# Altium footprint library SOP.PcbLib: 40 footprints (part 1 of 3)
Each footprint in its own frame and in the unit in brackets; x right, y up, seen from the top. Pads: shape width x height; smd on the part's side, far side on the other; paste and mask are expansions set on the pad; w line width, h text height; cw(c..) or ccw(c..) is an arc to the next point about the centre after c.
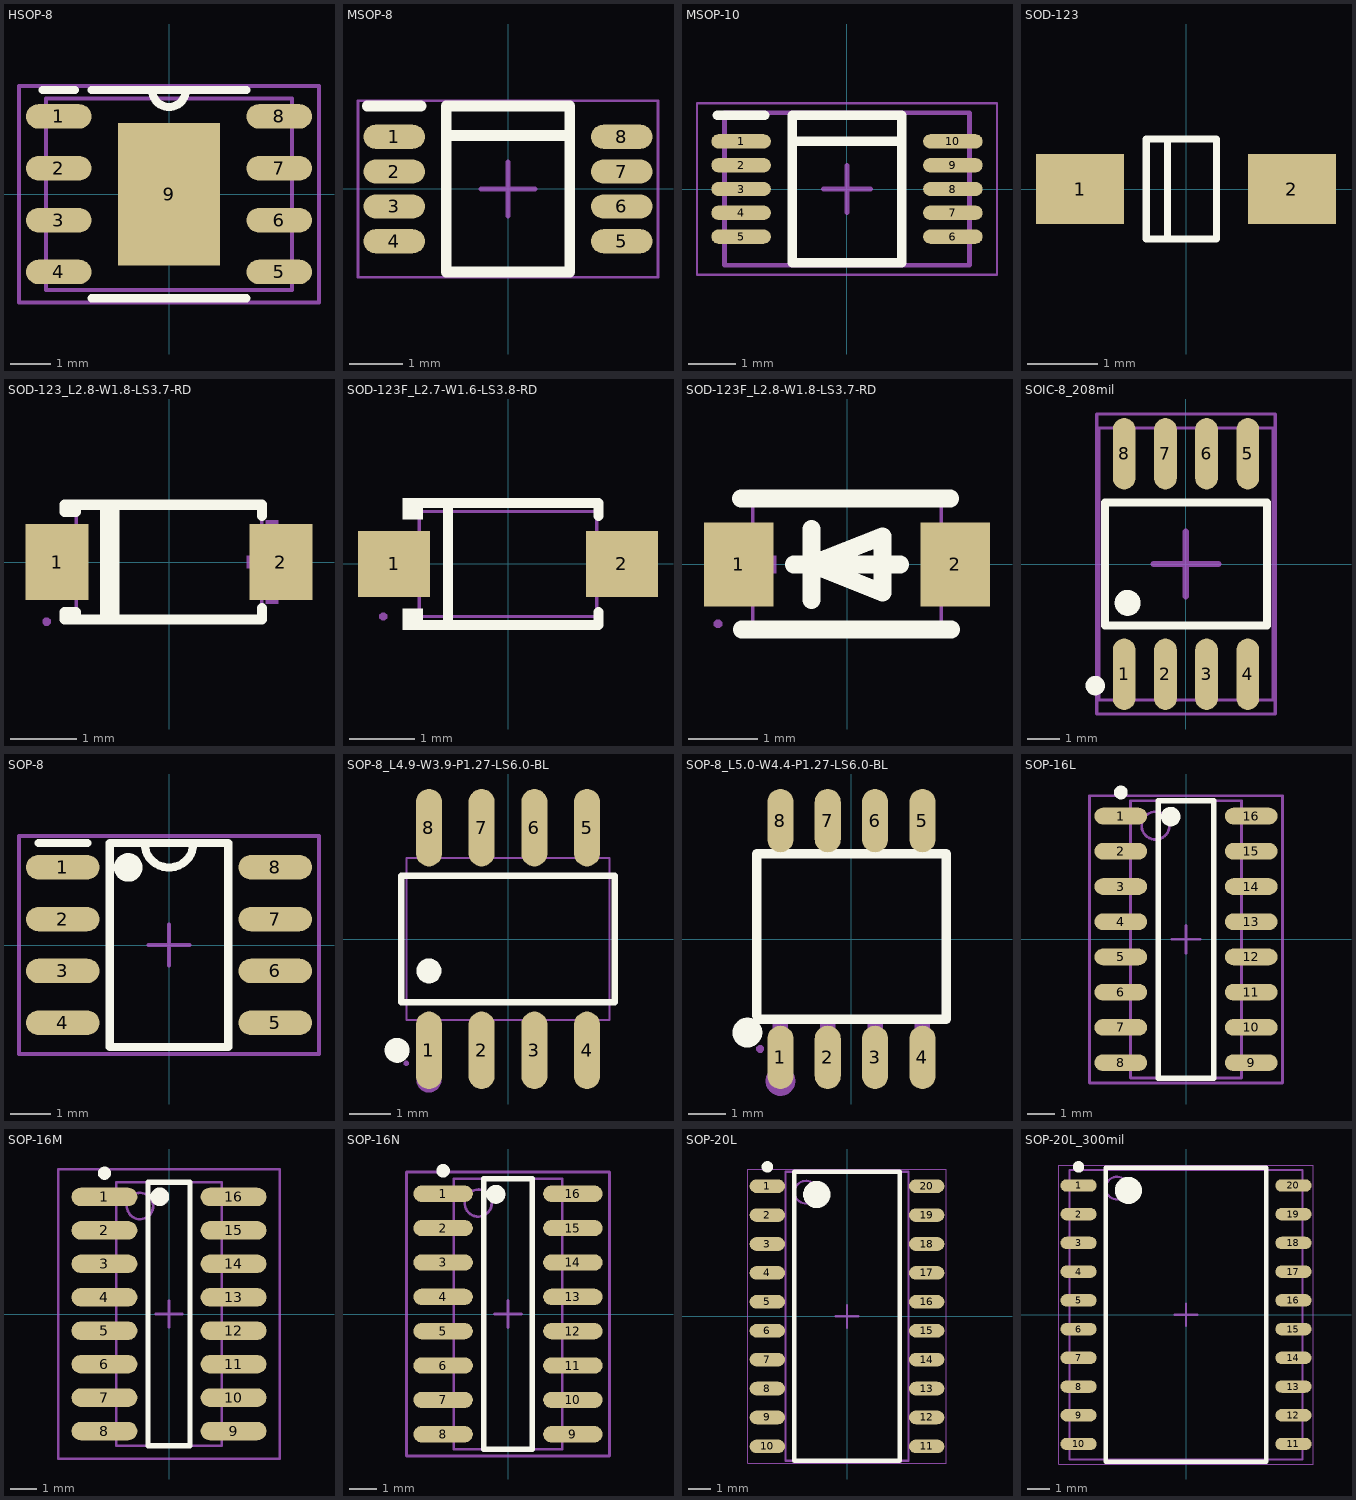
[diagram p0: the footprints below, top view; thin cyan lines are the x and y axes]

## HSOP-8 [mm] "ESOP8; HSOP8; SOP8-PP"
pads (9):
  oval 1.6x0.6 smd: 1(-2.7,1.905) 2(-2.7,0.635) 3(-2.7,-0.635) 4(-2.7,-1.905) 5(2.7,-1.905) 6(2.7,-0.635) 7(2.7,0.635) 8(2.7,1.905)
  rect 2.5x3.5 smd: 9(0,0)
Top Overlay:
  lines w0.2: -3.1,2.55 -2.3,2.55 ; -1.9,-2.55 1.9,-2.55 ; -1.9,2.55 1.9,2.55 ; -0.411,2.55 ccw(c0,2.55) 0.411,2.55
Mechanical 13:
  lines w0.1: -3.014,-2.347 -3.014,2.346 3.014,2.346 3.014,-2.347 -3.014,-2.347
Mechanical 15:
  lines w0.1: -0.5,0 0.5,0 ; 0,-0.5 0,0.5 ; -3.675,-2.65 -3.675,2.65 3.675,2.65 3.675,-2.65 -3.675,-2.65
3D body "HSOP-8.STEP": height 1.7, standoff 0, extent -3.014,-2.347 3.014,2.346

## MSOP-8 [mm] "TSOP, 8-Leads, Body 3.00x3.00mm, Pitch 0.65mm, IPC High Density"
height 1.1
pads (8):
  oval 1.15x0.45 smd: 1(-2.125,0.975) 2(-2.125,0.325) 3(-2.125,-0.325) 4(-2.125,-0.975) 5(2.125,-0.975) 6(2.125,-0.325) 7(2.125,0.325) 8(2.125,0.975)
Top Overlay:
  lines w0.2: -2.625,1.55 -1.625,1.55 ; -1.15,1 1.15,1 ; -1.15,-1.55 -1.15,1.55 1.15,1.55 1.15,-1.55 -1.15,-1.55
Mechanical 15:
  lines w0.05: -2.8,-1.65 -2.8,1.65 2.8,1.65 2.8,-1.65 -2.8,-1.65
  lines w0.1: -0.5,0 0.5,0 ; 0,-0.5 0,0.5
3D body "MSOP-8.STEP": height 1, standoff -0.07, extent -2.511,-1.5 2.51,1.5

## MSOP-10 [mm] "TSSOP, 10-Leads, Body 3.00x3.00mm, Pitch 0.50mm, IPC Medium Density"
height 1.1
pads (10):
  oval 1.25x0.3 smd: 1(-2.225,1) 2(-2.225,0.5) 3(-2.225,0) 4(-2.225,-0.5) 5(-2.225,-1) 6(2.225,-1) 7(2.225,-0.5) 8(2.225,0) 9(2.225,0.5) 10(2.225,1)
Top Overlay:
  lines w0.2: -2.725,1.55 -1.725,1.55 ; -1.15,1 1.15,1 ; -1.15,-1.55 -1.15,1.55 1.15,1.55 1.15,-1.55 -1.15,-1.55
Mechanical 13:
  lines w0.1: -2.575,-1.6 -2.575,1.6 2.575,1.6 2.575,-1.6 -2.575,-1.6
Mechanical 15:
  lines w0.05: -3.15,-1.8 -3.15,1.8 3.15,1.8 3.15,-1.8 -3.15,-1.8
  lines w0.1: -0.5,0 0.5,0 ; 0,-0.5 0,0.5
3D body "MSOP-10.STEP": height 1.09, standoff 0, extent -2.575,-1.6 2.575,1.6

## SOD-123 [mm]
pads (2):
  rect 1.25x1 smd mask+0.051: 1(-1.504,0) 2(1.504,0)
Top Overlay:
  lines w0.1: -0.264,-0.711 -0.264,0.711 ; -0.564,-0.711 0.436,-0.711 0.436,0.711 -0.564,0.711 -0.564,-0.711

## SOD-123_L2.8-W1.8-LS3.7-RD [mm]
pads (2):
  rect 0.95x1.15 smd paste+0 mask+0.051: 1(-1.692,0) 2(1.692,0)
Top Overlay:
  lines w0.152: -0.97,-0.866 -0.97,0.866 ; -0.827,-0.866 -0.827,0.866 ; 1.406,-0.698 1.406,-0.866 -1.406,-0.866 ; 1.406,0.698 1.406,0.866 -1.406,0.866 ; -1.406,-0.866 -1.58,-0.866 -1.58,-0.755 -1.406,-0.755 -1.406,-0.866 ; -1.406,0.866 -1.58,0.866 -1.58,0.755 -1.406,0.755 -1.406,0.866
Mechanical 6:
  region: -2.03,0.095 -2.03,-0.095 -1.272,-0.095 -1.272,0.095
  region: 1.935,0.098 1.935,-0.092 1.177,-0.092 1.177,0.098
  region: 1.651,0.635 1.651,-0.629 1.461,-0.629 1.461,0.635
Mechanical 15:
  region: -1.91,-0.9 -1.91,-0.925 -1.875,-0.96 -1.826,-0.96 -1.79,-0.925 -1.79,-0.9 -1.79,-0.875 -1.826,-0.84 -1.875,-0.84 -1.91,-0.875 -1.91,-0.9
  region: -1.851,-0.465 -1.851,0.465 -1.301,0.465 -1.301,-0.465
  region: 1.851,-0.465 1.851,0.465 1.301,0.465 1.301,-0.465
  lines w0.051: -1.4,-0.9 -1.4,0.9 1.4,0.9 1.4,-0.9 -1.4,-0.9

## SOD-123F_L2.7-W1.6-LS3.8-RD [mm]
pads (2):
  rect 1.1x1 smd paste+0 mask+0.051: 1(-1.735,0) 2(1.735,0)
Top Overlay:
  region: -1.3,1.002 -1.3,0.682 -1.605,0.682 -1.605,1.002
  region: -1.3,-1.003 -1.3,-0.683 -1.605,-0.683 -1.605,-1.003
  lines w0.152: -1.376,-0.926 1.376,-0.926 1.376,-0.733 ; -1.376,0.926 1.376,0.926 1.376,0.733 ; -0.917,-0.876 -0.917,0.876
Mechanical 6:
  region: -2.032,0.127 -2.032,-0.065 -1.264,-0.065 -1.264,0.127
  region: 2.035,0.096 2.035,-0.096 1.267,-0.096 1.267,0.096
  region: 1.747,-0.384 1.555,-0.384 1.555,0.384 1.747,0.384
Mechanical 15:
  region: -1.96,-0.8 -1.96,-0.825 -1.925,-0.86 -1.875,-0.86 -1.84,-0.825 -1.84,-0.8 -1.84,-0.775 -1.875,-0.74 -1.925,-0.74 -1.96,-0.775 -1.96,-0.8
  region: 1.9,0.275 1.9,-0.275 1.31,-0.275 1.31,0.275
  region: -1.9,-0.275 -1.9,0.275 -1.31,0.275 -1.31,-0.275
  lines w0.051: -1.35,-0.8 -1.35,0.8 1.35,0.8 1.35,-0.8 -1.35,-0.8

## SOD-123F_L2.8-W1.8-LS3.7-RD [mm]
pads (2):
  rect 1x1.2 smd paste+0 mask+0.051: 1(-1.55,0) 2(1.55,0)
Top Overlay:
  lines w0.254: -1.52,0.947 1.48,0.947 ; -1.507,-0.933 1.493,-0.933 ; -0.762,0 0.762,0 ; -0.508,-0.508 -0.508,0.508 ; -0.508,0 0.508,0.406 0.508,-0.406 -0.508,0
Mechanical 6:
  region: 1.143,0.127 2.032,0.127 2.032,-0.127 1.143,-0.127
  region: 1.471,-0.436 1.471,0.453 1.725,0.453 1.725,-0.436
  region: -1.905,0.127 -1.016,0.127 -1.016,-0.127 -1.905,-0.127
Mechanical 15:
  region: 1.3,-0.5 1.3,0.5 1.85,0.5 1.85,-0.5
  region: -1.85,-0.5 -1.85,0.5 -1.3,0.5 -1.3,-0.5
  region: -1.85,-0.91 -1.825,-0.91 -1.79,-0.875 -1.79,-0.825 -1.825,-0.79 -1.85,-0.79 -1.875,-0.79 -1.91,-0.825 -1.91,-0.875 -1.875,-0.91 -1.85,-0.91
  lines w0.051: -1.35,-0.85 1.35,-0.85 1.35,0.85 -1.35,0.85 -1.35,-0.85

## SOIC-8_208mil [mm]
pads (8):
  oval 0.7x2.2 smd: 1(-1.905,-3.4) 2(-0.635,-3.4) 3(0.635,-3.4) 4(1.905,-3.4) 5(1.905,3.4) 6(0.635,3.4) 7(-0.635,3.4) 8(-1.905,3.4)
Top Overlay:
  circle w0.4: c-1.8,-1.2 r0.2
  circle w0.3: c-2.797,-3.75 r0.15
  lines w0.254: -2.5,-1.9 2.5,-1.9 2.5,1.9 -2.5,1.9 -2.5,-1.9
Mechanical 13:
  lines w0.1: -2.69,-4.196 2.69,-4.196 2.69,4.196 -2.69,4.196 -2.69,-4.196
Mechanical 15:
  lines w0.1: -2.75,-4.625 2.75,-4.625 2.75,4.625 -2.75,4.625 -2.75,-4.625
  lines w0.2: -1,0 0,0 ; 0,-1 0,0 ; 0,1 0,0 ; 1,0 0,0
3D body "SOIC-8_208mil.STEP": height 2.3, standoff -0.02, extent -2.69,-4.196 2.69,4.196

## SOP-8 [mm]
height 1.75
pads (8):
  oval 1.8x0.6 smd: 1(-2.6,1.905) 2(-2.6,0.635) 3(-2.6,-0.635) 4(-2.6,-1.905) 5(2.6,-1.905) 6(2.6,-0.635) 7(2.6,0.635) 8(2.6,1.905)
Top Overlay:
  circle w0.4: c-1,1.9 r0.15
  lines w0.2: -3.2,2.5 -2,2.5 ; -0.6,2.5 ccw(c0,2.5) 0.6,2.5 ; -1.45,-2.5 -1.45,2.5 1.45,2.5 1.45,-2.5 -1.45,-2.5
Mechanical 15:
  lines w0.1: -0.5,0 0.5,0 ; 0,-0.5 0,0.5 ; -3.675,-2.675 -3.675,2.675 3.675,2.675 3.675,-2.675 -3.675,-2.675
3D body "SOP-8.STEP": height 1.75, standoff 0, extent -3.1,-2.5 3.1,2.5

## SOP-8_L4.9-W3.9-P1.27-LS6.0-BL [mm]
pads (8):
  oval 0.63x1.865 smd paste+0 mask+0.051: 1(-1.905,-2.682) 2(-0.635,-2.682) 3(0.635,-2.682) 4(1.905,-2.682) 5(1.905,2.682) 6(0.635,2.682) 7(-0.635,2.682) 8(-1.905,2.682)
Top Overlay:
  circle w0.3: c-1.905,-0.769 r0.15
  circle w0.3: c-2.672,-2.682 r0.15
  lines w0.152: -2.576,-1.521 -2.576,1.521 2.576,1.521 2.576,-1.521 -2.576,-1.521
Mechanical 6:
  circle w0.3: c-1.905,-3.4 r0.15
Mechanical 15:
  region: -2.45,-2.94 -2.475,-2.94 -2.51,-2.975 -2.51,-3.025 -2.475,-3.06 -2.45,-3.06 -2.425,-3.06 -2.39,-3.025 -2.39,-2.975 -2.425,-2.94 -2.45,-2.94
  region: 1.695,1.94 1.695,2.175 2.115,2.175 2.115,1.94
  region: 1.695,2.165 1.695,3 2.115,3 2.115,2.165
  region: 0.425,1.94 0.425,2.175 0.845,2.175 0.845,1.94
  region: 0.425,2.165 0.425,3 0.845,3 0.845,2.165
  region: -0.845,1.94 -0.845,2.175 -0.425,2.175 -0.425,1.94
  region: -0.845,2.165 -0.845,3 -0.425,3 -0.425,2.165
  region: -2.115,1.94 -2.115,2.175 -1.695,2.175 -1.695,1.94
  region: -2.115,2.165 -2.115,3 -1.695,3 -1.695,2.165
  region: 1.695,-2.175 1.695,-1.94 2.115,-1.94 2.115,-2.175
  region: 1.695,-3 1.695,-2.165 2.115,-2.165 2.115,-3
  region: 0.425,-2.175 0.425,-1.94 0.845,-1.94 0.845,-2.175
  region: 0.425,-3 0.425,-2.165 0.845,-2.165 0.845,-3
  region: -0.845,-2.175 -0.845,-1.94 -0.425,-1.94 -0.425,-2.175
  region: -0.845,-3 -0.845,-2.165 -0.425,-2.165 -0.425,-3
  region: -2.115,-2.175 -2.115,-1.94 -1.695,-1.94 -1.695,-2.175
  region: -2.115,-3 -2.115,-2.165 -1.695,-2.165 -1.695,-3
  lines w0.051: -2.45,-1.95 -2.45,1.95 2.45,1.95 2.45,-1.95 -2.45,-1.95

## SOP-8_L5.0-W4.4-P1.27-LS6.0-BL [mm]
pads (8):
  oval 0.7x1.7 smd paste+0 mask+0.051: 1(-1.905,-3.175) 2(-0.635,-3.175) 3(0.635,-3.175) 4(1.905,-3.175) 5(1.905,3.175) 6(0.635,3.175) 7(-0.635,3.175) 8(-1.905,3.175)
Top Overlay:
  lines w0.254: -2.54,-2.032 ccw(c-2.413,-2.032) -2.413,-2.159 2.54,-2.159 2.54,2.286 -2.54,2.286 -2.54,-2.032
  lines w0.4: -2.794,-2.311 ccw(c-2.793,-2.511) -2.791,-2.311
Mechanical 6:
  circle w0.4: c-1.905,-3.81 r0.2
Mechanical 15:
  region: -2.105,2.5 -2.105,3 -1.705,3 -1.705,2.5
  region: -2.105,2.19 -2.105,2.51 -1.705,2.51 -1.705,2.19
  region: -0.835,2.5 -0.835,3 -0.435,3 -0.435,2.5
  region: -0.835,2.19 -0.835,2.51 -0.435,2.51 -0.435,2.19
  region: 0.435,2.5 0.435,3 0.835,3 0.835,2.5
  region: 0.435,2.19 0.435,2.51 0.835,2.51 0.835,2.19
  region: 1.705,2.5 1.705,3 2.105,3 2.105,2.5
  region: 1.705,2.19 1.705,2.51 2.105,2.51 2.105,2.19
  region: -2.105,-3 -2.105,-2.5 -1.705,-2.5 -1.705,-3
  region: -2.105,-2.51 -2.105,-2.19 -1.705,-2.19 -1.705,-2.51
  region: -0.835,-3 -0.835,-2.5 -0.435,-2.5 -0.435,-3
  region: -0.835,-2.51 -0.835,-2.19 -0.435,-2.19 -0.435,-2.51
  region: 0.435,-3 0.435,-2.5 0.835,-2.5 0.835,-3
  region: 0.435,-2.51 0.435,-2.19 0.835,-2.19 0.835,-2.51
  region: 1.705,-3 1.705,-2.5 2.105,-2.5 2.105,-3
  region: 1.705,-2.51 1.705,-2.19 2.105,-2.19 2.105,-2.51
  region: -2.45,-2.85 -2.408,-2.85 -2.35,-2.909 -2.35,-2.991 -2.408,-3.05 -2.45,-3.05 -2.491,-3.05 -2.55,-2.991 -2.55,-2.909 -2.491,-2.85 -2.45,-2.85
  lines w0.051: -2.5,-2.2 2.5,-2.2 2.5,2.2 -2.5,2.2 -2.5,-2.2

## SOP-16L [mm] "SOIC, 16-Leads, Body 9.9x3.9mm, Pitch 1.27mm, IPC High Density"
height 1.91
pads (16):
  oval 1.9x0.6 smd: 1(-2.35,4.445) 2(-2.35,3.175) 3(-2.35,1.905) 4(-2.35,0.635) 5(-2.35,-0.635) 6(-2.35,-1.905) 7(-2.35,-3.175) 8(-2.35,-4.445) 9(2.35,-4.445) 10(2.35,-3.175) 11(2.35,-1.905) 12(2.35,-0.635) 13(2.35,0.635) 14(2.35,1.905) 15(2.35,3.175) 16(2.35,4.445)
Top Overlay:
  circle w0.25: c-2.35,5.295 r0.125
  circle w0.4: c-0.55,4.425 r0.15
  lines w0.2: -1,-5 1,-5 1,5 -1,5 -1,-5
Mechanical 13:
  circle w0.1: c-1.1,4.1 r0.5
  lines w0.1: -2,-5 2,-5 2,5 -2,5 -2,-5
Mechanical 15:
  lines w0.1: -0.5,0 0.5,0 ; 0,-0.5 0,0.5 ; -3.475,-5.175 3.475,-5.175 3.475,5.175 -3.475,5.175 -3.475,-5.175
3D body: height 1.91, standoff 0, extent -2,-5 2,5

## SOP-16M [mm] "SOIC, 16-Leads, Body 9.9x3.9mm, Pitch 1.27mm, IPC Low Density"
height 1.91
pads (16):
  oval 2.5x0.7 smd: 1(-2.45,4.445) 2(-2.45,3.175) 3(-2.45,1.905) 4(-2.45,0.635) 5(-2.45,-0.635) 6(-2.45,-1.905) 7(-2.45,-3.175) 8(-2.45,-4.445) 9(2.45,-4.445) 10(2.45,-3.175) 11(2.45,-1.905) 12(2.45,-0.635) 13(2.45,0.635) 14(2.45,1.905) 15(2.45,3.175) 16(2.45,4.445)
Top Overlay:
  circle w0.4: c-0.35,4.45 r0.15
  circle w0.25: c-2.45,5.345 r0.125
  lines w0.2: -0.8,-5 -0.8,5 0.8,5 0.8,-5 -0.8,-5
Mechanical 13:
  circle w0.1: c-1.1,4.1 r0.5
  lines w0.1: -2,-5 -2,5 2,5 2,-5 -2,-5
Mechanical 15:
  lines w0.1: -0.5,0 0.5,0 ; 0,-0.5 0,0.5 ; -4.2,-5.5 -4.2,5.5 4.2,5.5 4.2,-5.5 -4.2,-5.5
3D body: height 1.91, standoff 0, extent -2,-5 2,5

## SOP-16N [mm] "SOIC, 16-Leads, Body 9.9x3.9mm, Pitch 1.27mm, IPC Medium Density"
height 1.91
pads (16):
  oval 2.2x0.6 smd: 1(-2.4,4.445) 2(-2.4,3.175) 3(-2.4,1.905) 4(-2.4,0.635) 5(-2.4,-0.635) 6(-2.4,-1.905) 7(-2.4,-3.175) 8(-2.4,-4.445) 9(2.4,-4.445) 10(2.4,-3.175) 11(2.4,-1.905) 12(2.4,-0.635) 13(2.4,0.635) 14(2.4,1.905) 15(2.4,3.175) 16(2.4,4.445)
Top Overlay:
  circle w0.25: c-2.4,5.295 r0.125
  circle w0.4: c-0.45,4.425 r0.15
  lines w0.2: -0.9,-5 0.9,-5 0.9,5 -0.9,5 -0.9,-5
Mechanical 13:
  circle w0.1: c-1.1,4.1 r0.5
  lines w0.1: -2,-5 2,-5 2,5 -2,5 -2,-5
Mechanical 15:
  lines w0.1: -0.5,0 0.5,0 ; 0,-0.5 0,0.5 ; -3.75,-5.25 3.75,-5.25 3.75,5.25 -3.75,5.25 -3.75,-5.25
3D body: height 1.91, standoff 0, extent -2,-5 2,5

## SOP-20L [mm] "SOP, 20-Leads, Body 12.60x5.30mm, Pitch 1.27mm, IPC High Density"
height 2.1
pads (20):
  oval 1.55x0.6 smd: 1(-3.5,5.715) 2(-3.5,4.445) 3(-3.5,3.175) 4(-3.5,1.905) 5(-3.5,0.635) 6(-3.5,-0.635) 7(-3.5,-1.905) 8(-3.5,-3.175) 9(-3.5,-4.445) 10(-3.5,-5.715) 11(3.5,-5.715) 12(3.5,-4.445) 13(3.5,-3.175) 14(3.5,-1.905) 15(3.5,-0.635) 16(3.5,0.635) 17(3.5,1.905) 18(3.5,3.175) 19(3.5,4.445) 20(3.5,5.715)
Top Overlay:
  circle w0.6: c-1.325,5.35 r0.3
  circle w0.25: c-3.5,6.565 r0.125
  lines w0.2: -2.325,-6.35 2.325,-6.35 2.325,6.35 -2.325,6.35 -2.325,-6.35
Mechanical 13:
  circle w0.1: c-1.8,5.45 r0.5
  lines w0.1: -2.7,-6.35 2.7,-6.35 2.7,6.35 -2.7,6.35 -2.7,-6.35
Mechanical 15:
  lines w0.05: -4.35,-6.45 4.35,-6.45 4.35,6.45 -4.35,6.45 -4.35,-6.45
  lines w0.1: -0.5,0 0.5,0 ; 0,-0.5 0,0.5
3D body: height 2.1, standoff 0.25, extent -2.7,-6.35 2.7,6.35

## SOP-20L_300mil [mm] "SOP, 20-Leads, Body 12.70x7.65mm, Pitch 1.27mm, IPC High Density"
height 2.35
pads (20):
  oval 1.6x0.55 smd: 1(-4.75,5.715) 2(-4.75,4.445) 3(-4.75,3.175) 4(-4.75,1.905) 5(-4.75,0.635) 6(-4.75,-0.635) 7(-4.75,-1.905) 8(-4.75,-3.175) 9(-4.75,-4.445) 10(-4.75,-5.715) 11(4.75,-5.715) 12(4.75,-4.445) 13(4.75,-3.175) 14(4.75,-1.905) 15(4.75,-0.635) 16(4.75,0.635) 17(4.75,1.905) 18(4.75,3.175) 19(4.75,4.445) 20(4.75,5.715)
Top Overlay:
  circle w0.25: c-4.75,6.54 r0.125
  circle w0.6: c-2.55,5.5 r0.3
  lines w0.2: -3.55,-6.5 -3.55,6.5 3.55,6.5 3.55,-6.5 -3.55,-6.5
Mechanical 13:
  circle w0.1: c-3.05,5.6 r0.5
  lines w0.1: -5.15,-6.4 5.15,-6.4 5.15,6.4 -5.15,6.4 -5.15,-6.4
Mechanical 15:
  lines w0.05: -5.625,-6.6 -5.625,6.6 5.625,6.6 5.625,-6.6 -5.625,-6.6
  lines w0.1: -0.5,0 0.5,0 ; 0,-0.5 0,0.5
3D body "SOP-20_300mil.STEP": height 2.7, standoff 0, extent -5.15,-6.4 5.15,6.4